# Altium schematic symbol library PUMD48,125.Schlib: 1 symbol
Pins are listed as number, name and electrical type; pins without a type are passive.

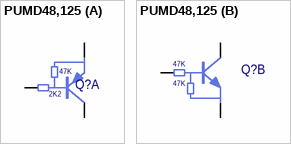
[diagram p0: symbol PUMD48,125]

## PUMD48,125
designator Q?  (value not drawn)
Transitor PNP
part A pins: 3 C2, 4 E2, 5 B1
part B pins: 1 E1, 2 B1, 6 C1
part A text: 47K; 2K2
part B text: 47K